# Altium integrated library ISL3172EIBZ.IntLib: 1 symbol
Pins are listed as number, name and electrical type; pins without a type are passive.

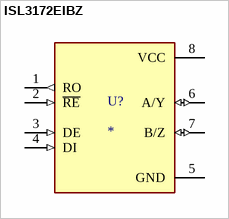
[diagram p0: symbol ISL3172EIBZ]

## ISL3172EIBZ
designator U?
1/1 Transceiver Half RS422, RS485 8-SOIC; MF: Renesas Electronics America Inc; MP: ISL3172EIBZ; SnapEDA_Link: https://www.snapeda.com/parts/ISL3172EIBZ/Renesas/view-part/?ref=snap; Package: SOIC-8 Renesas; Value: *; Check_prices: https://www.snapeda.com/parts/ISL3172EIBZ/Renesas/view-part/?ref=eda
footprint SOIC127P600X175-8N
pins: 1 RO (out), 2 ~{RE} (in), 3 DE (in), 4 DI (in), 5 GND (power), 6 A/Y (io), 7 B/Z (io), 8 VCC (power)